# EAGLE library part ESP32 (library CAN-Display)
ESP32 Development Board
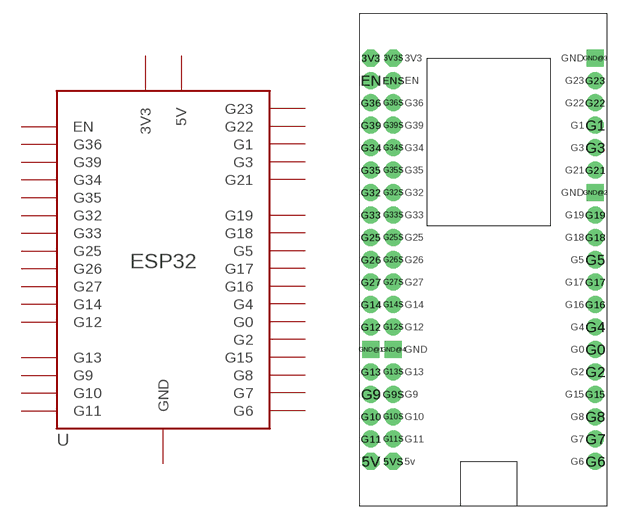
[diagram p0: symbol with the pads of ESP32; footprint ESP32]

Designator prefix U

## ESP32  [ESP32]
3V3  3V3  pwr
3V3S  3V3  pwr
5V  5V  pwr
5VS  5V  pwr
EN  EN
ENS  EN
G0  G0
G1  G1
G2  G2
G3  G3
G4  G4
G5  G5
G6  G6
G7  G7
G8  G8
G9  G9
G9S  G9
G10  G10
G10S  G10
G11  G11
G11S  G11
G12  G12
G12S  G12
G13  G13
G13S  G13
G14  G14
G14S  G14
G15  G15
G16  G16
G17  G17
G18  G18
G19  G19
G21  G21
G22  G22
G23  G23
G25  G25
G25S  G25
G26  G26
G26S  G26
G27  G27
G27S  G27
G32  G32
G32S  G32
G33  G33
G33S  G33
G34  G34
G34S  G34
G35  G35
G35S  G35
G36  G36
G36S  G36
G39  G39
G39S  G39
GND@1  GND  pwr
GND@2  GND  pwr
GND@3  GND  pwr
GND@4  GND  pwr

## Footprint ESP32 (pad centres in mm)
drill 1 pad 1.93 octagon: 3V3 -12.7,20.32; 3V3S -10.16,20.32; 5V -12.7,-25.4; 5VS -10.16,-25.4
drill 1 pad 1.93: EN -12.7,17.78; ENS -10.16,17.78; G0 12.7,-12.7; G1 12.7,12.7; G2 12.7,-15.24; G3 12.7,10.16; G4 12.7,-10.16; G5 12.7,-2.54; G6 12.7,-25.4; G7 12.7,-22.86; G8 12.7,-20.32; G9 -12.7,-17.78; G9S -10.16,-17.78; G10 -12.7,-20.32; G10S -10.16,-20.32; G11 -12.7,-22.86; G11S -10.16,-22.86; G12 -12.7,-10.16; G12S -10.16,-10.16; G13 -12.7,-15.24; G13S -10.16,-15.24; G14 -12.7,-7.62; G14S -10.16,-7.62; G15 12.7,-17.78; G16 12.7,-7.62; G17 12.7,-5.08; G18 12.7,0; G19 12.7,2.54; G21 12.7,7.62; G22 12.7,15.24; G23 12.7,17.78; G25 -12.7,0; G25S -10.16,0; G26 -12.7,-2.54; G26S -10.16,-2.54; G27 -12.7,-5.08; G27S -10.16,-5.08; G32 -12.7,5.08; G32S -10.16,5.08; G33 -12.7,2.54; G33S -10.16,2.54; G34 -12.7,10.16; G34S -10.16,10.16; G35 -12.7,7.62; G35S -10.16,7.62; G36 -12.7,15.24; G36S -10.16,15.24; G39 -12.7,12.7; G39S -10.16,12.7
drill 1 pad 1.93 square: GND@1 -12.7,-12.7; GND@2 12.7,5.08; GND@3 12.7,20.32; GND@4 -10.16,-12.7